# Altium schematic symbol library TLV74133PDBVR.SchLib: 1 symbol
Pins are listed as number, name and electrical type; pins without a type are passive.

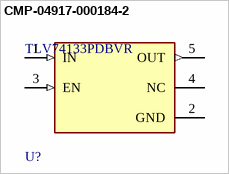
[diagram p0: symbol CMP-04917-000184-2]

## CMP-04917-000184-2
designator U?, comment TLV74133PDBVR
None; Min Output Voltage: 3.3V; Number of Regulators: 1; Max Supply Current: 75uA; Max Input Voltage: 5.5V; Output Type: Fixed; Dropout Voltage: 540mV; Output Configuration: Positive; Quiescent Current: 50uA; Output Current: 150mA; Power Supply Rejection Ratio (PSRR): 55dB; RoHS Compliant: Yes; Case/Package: SOT-23-5; Packaging: Tape and Reel; Min Operating Temperature: -40°C; Mount: Surface Mount; Max Operating Temperature: 125°C
footprint FP-DBV0005A-MFG
footprint FP-DBV0005A-IPC_B
footprint FP-DBV0005A-IPC_C
footprint FP-DBV0005A-IPC_A
pins: 1 IN (in), 2 GND (power), 3 EN (in), 4 NC, 5 OUT (out)